# Altium schematic symbol library 2017-09-01_10-10-35.SchLib: 1 symbol
Pins are listed as number, name and electrical type; pins without a type are passive.

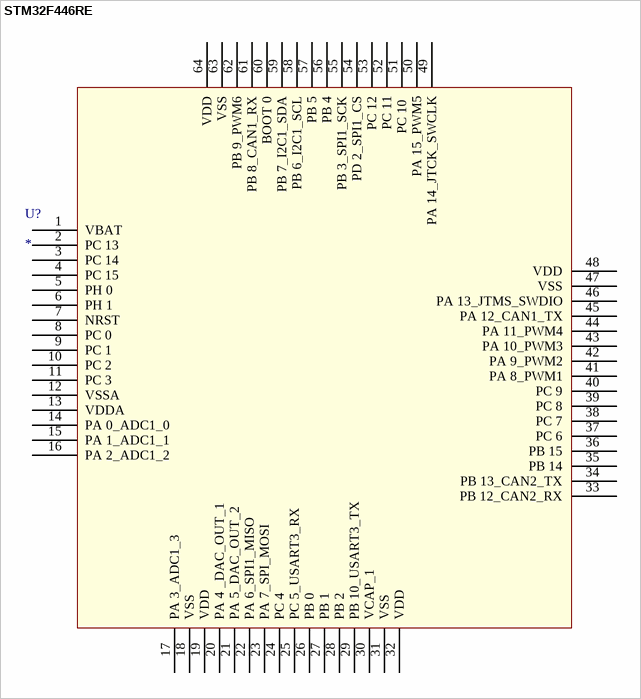
[diagram p0: symbol STM32F446RE]

## STM32F446RE
designator U?
footprint LQFP64-10x10mm
pins: 1 VBAT, 2 PC 13, 3 PC 14, 4 PC 15, 5 PH 0, 6 PH 1, 7 NRST, 8 PC 0, 9 PC 1, 10 PC 2, 11 PC 3, 12 VSSA, 13 VDDA, 14 PA 0_ADC1_0, 15 PA 1_ADC1_1, 16 PA 2_ADC1_2, 17 PA 3_ADC1_3, 18 VSS, 19 VDD, 20 PA 4 _DAC_OUT_1, 21 PA 5_DAC_OUT_2, 22 PA 6_SPI1_MISO, 23 PA 7_SPI_MOSI, 24 PC 4, 25 PC 5_USART3_RX, 26 PB 0, 27 PB 1, 28 PB 2, 29 PB 10_USART3_TX, 30 VCAP_1, 31 VSS, 32 VDD, 33 PB 12_CAN2_RX, 34 PB 13_CAN2_TX, 35 PB 14, 36 PB 15, 37 PC 6, 38 PC 7, 39 PC 8, 40 PC 9, 41 PA 8_PWM1, 42 PA 9_PWM2, 43 PA 10_PWM3, 44 PA 11_PWM4, 45 PA 12_CAN1_TX, 46 PA 13_JTMS_SWDIO, 47 VSS, 48 VDD, 49 PA 14_JTCK_SWCLK, 50 PA 15_PWM5, 51 PC 10 , 52 PC 11, 53 PC 12, 54 PD 2_SPI1_CS, 55 PB 3_SPI1_SCK, 56 PB 4, 57 PB 5, 58 PB 6_I2C1_SCL, 59 PB 7_I2C1_SDA, 60 BOOT 0, 61 PB 8_CAN1_RX, 62 PB 9_PWM6, 63 VSS, 64 VDD